# EAGLE library part A9619- (library E&R_Inductores)
Flyback Transformers for ON Semiconductor NCP101X
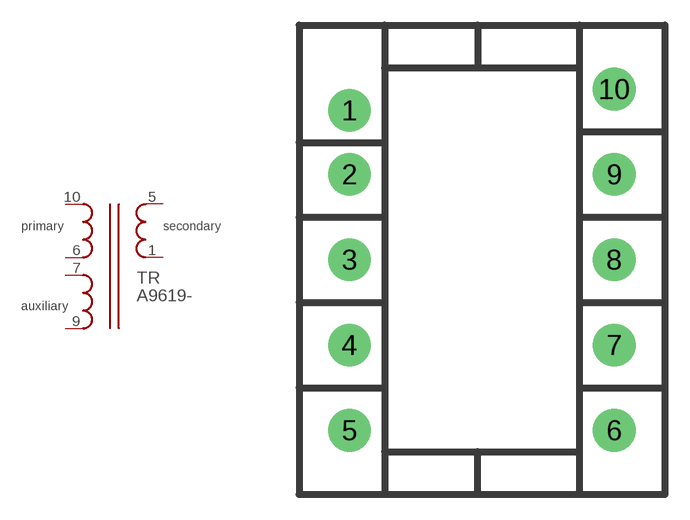
[diagram p0: symbol with the pads of A9619; footprint A9619]

Designator prefix TR

## A9619-CL  [A9619]
1  1
5  5
6  6
7  7
9  9
10  10

## Footprint A9619 (pad centres in mm)
Flyback Transformers for ON Semiconductor NCP101X
drill 1.13 pad 2.54: 1 -7.62,8.89; 2 -7.62,5.08; 4 -7.62,-5.08; 5 -7.62,-10.16; 6 8.13,-10.16; 7 8.13,-5.08; 8 8.13,0; 9 8.13,5.08; 10 8.13,10.16
drill 1.12 pad 2.54: 3 -7.62,0